# Altium schematic symbol library Molex Jumper.SchLib: 1 symbol
Pins are listed as number, name and electrical type; pins without a type are passive.

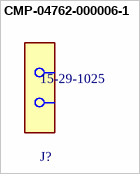
[diagram p0: symbol CMP-04762-000006-1]

## CMP-04762-000006-1
designator J?, comment 15-29-1025
CONN SHUNT CLOSED TOP .100 GOLD; Contact Resistance: 15mR; Number of Circuits: 2; Gender: Female; Insulation Resistance: 100GR; Approvals: UL; Body Material: Polyester; Primary Type: Rectangular; Pitch: 2.54mm; Current Rating: 5A; Height: 0.347inch; Packaging: Bag; ELV: Compliant; Package Quantity: 10000; Width: 2.54mm; Contact Material: Bronze; Series: C-Grid® 7859; Contact Gender: Female; Material: Bronze; Termination: Solder; Depth: 8.81mm; Orientation: Straight; Min Operating Temperature: -40°C; Length: 5.08mm; Max Operating Temperature: 105°C; Number of Positions: 2; Flammability Rating: UL94 V-0; Housing Material: Polyester; Radiation Hardening: No; Housing Color: Black; Lead Free: Lead Free; Number of Contacts: 2; RoHS Compliant: Yes; Number of Rows: 1; Contact Plating: Gold; Color: Black
footprint FP-15-29-1025-MFG